# Altium schematic symbol library LED.SchLib: 3 symbols
Pins are listed as number, name and electrical type; pins without a type are passive.

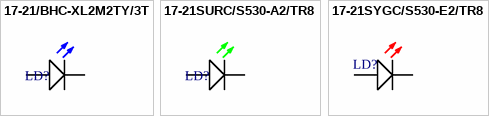
[diagram p0: symbols 17-21/BHC-XL2M2TY/3T to 17-21SYGC/S530-E2/TR8]

## 17-21/BHC-XL2M2TY/3T
designator LD?, comment BLUE  (value not drawn)
Manufacturer: Everlight Elec; Manufacturer Part Number: 17-21/BHC-XL2M2TY/3T; Category: LED; Datasheet: https://datasheet.lcsc.com/lcsc/1809192317_Everlight-Elec-17-21-BHC-XL2M2TY-3T_C72035.pdf
footprint LED 0805
pins: A, K

## 17-21SURC/S530-A2/TR8
designator LD?, comment GREEN  (value not drawn)
Manufacturer: Everlight Elec; Manufacturer Part Number: 17-21SYGC/S530-E2/TR8; ComponentLink1Description: Datasheet; Category: LED; Datasheet: https://datasheet.lcsc.com/lcsc/1811011222_Everlight-Elec-17-21SYGC-S530-E2-TR8_C73548.pdf
footprint LED 0805
pins: A, K

## 17-21SYGC/S530-E2/TR8
designator LD?, comment RED  (value not drawn)
Manufacturer: Everlight Elec; Manufacturer Part Number: 17-21SYGC/S530-E2/TR8; ComponentLink1Description: Datasheet; ComponentLink1URL: https://datasheet.lcsc.com/lcsc/1808272351_Everlight-Elec-17-21SURC-S530-A2-TR8_C131244.pdf; Category: LED
footprint LED 0805
pins: A, K